# EAGLE library part ALLEGRO-A1335-TSSOP14-ANGLE_SENSOR (library ClintonLib)
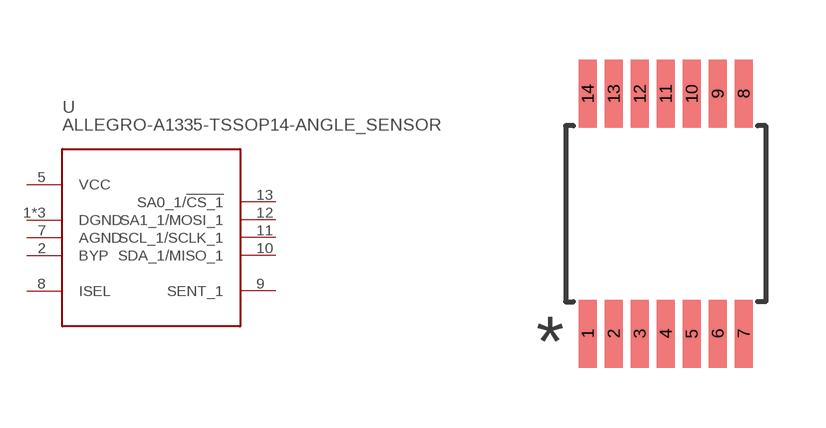
[diagram p9: symbol with the pads of ALLEGRO-A1335-TSSOP14; footprint ALLEGRO-A1335-TSSOP14]

Designator prefix -

## ALLEGRO-A1335-TSSOP14-ANGLE_SENSOR  [ALLEGRO-A1335-TSSOP14]
1  DGND
2  BYP
3  DGND
5  VCC
7  AGND
8  ISEL
9  SENT_1
10  SDA_1/MISO_1
11  SCL_1/SCLK_1
12  SA1_1/MOSI_1
13  SA0_1/!CS_1
14  DGND

## Footprint ALLEGRO-A1335-TSSOP14 (pad centres in mm)
Absolute magnetic angle position sensor
smd 0.45 x 1.7: 1 -1.95,-3; 2 -1.3,-3; 3 -0.65,-3; 4 0,-3; 5 0.65,-3; 6 1.3,-3; 7 1.95,-3; 8 1.95,3; 9 1.3,3; 10 0.65,3; 11 0,3; 12 -0.65,3; 13 -1.3,3; 14 -1.95,3